# EAGLE library part 28LAN+4SFP (library switch)
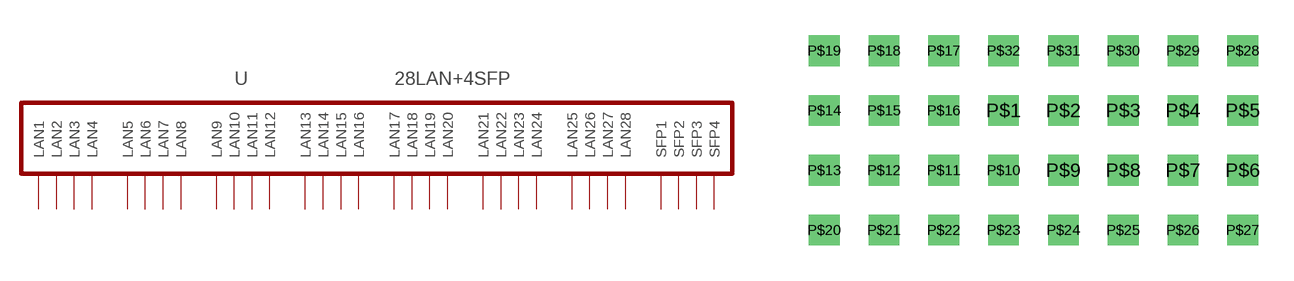
[diagram p10: symbol with the pads of 32PIN; footprint 32PIN]

Designator prefix -

## 28LAN+4SFP  [32PIN]
P$1  LAN1
P$2  LAN2
P$3  LAN3
P$4  LAN4
P$5  LAN5
P$6  LAN6
P$7  LAN7
P$8  LAN8
P$9  LAN9
P$10  LAN10
P$11  LAN11
P$12  LAN12
P$13  LAN13
P$14  LAN14
P$15  LAN15
P$16  LAN16
P$17  LAN17
P$18  LAN18
P$19  LAN19
P$20  LAN20
P$21  LAN21
P$22  LAN22
P$23  LAN23
P$24  LAN24
P$25  LAN25
P$26  LAN26
P$27  LAN27
P$28  LAN28
P$29  SFP1
P$30  SFP2
P$31  SFP3
P$32  SFP4

## Footprint 32PIN (pad centres in mm)
drill 0.8 square: P$1 -1.27,1.27; P$2 1.27,1.27; P$3 3.81,1.27; P$4 6.35,1.27; P$5 8.89,1.27; P$6 8.89,-1.27; P$7 6.35,-1.27; P$8 3.81,-1.27; P$9 1.27,-1.27; P$10 -1.27,-1.27; P$11 -3.81,-1.27; P$12 -6.35,-1.27; P$13 -8.89,-1.27; P$14 -8.89,1.27; P$15 -6.35,1.27; P$16 -3.81,1.27; P$17 -3.81,3.81; P$18 -6.35,3.81; P$19 -8.89,3.81; P$20 -8.89,-3.81; P$21 -6.35,-3.81; P$22 -3.81,-3.81; P$23 -1.27,-3.81; P$24 1.27,-3.81; P$25 3.81,-3.81; P$26 6.35,-3.81; P$27 8.89,-3.81; P$28 8.89,3.81; P$29 6.35,3.81; P$30 3.81,3.81; P$31 1.27,3.81; P$32 -1.27,3.81